# EAGLE library part MBUINO (library adafruit)
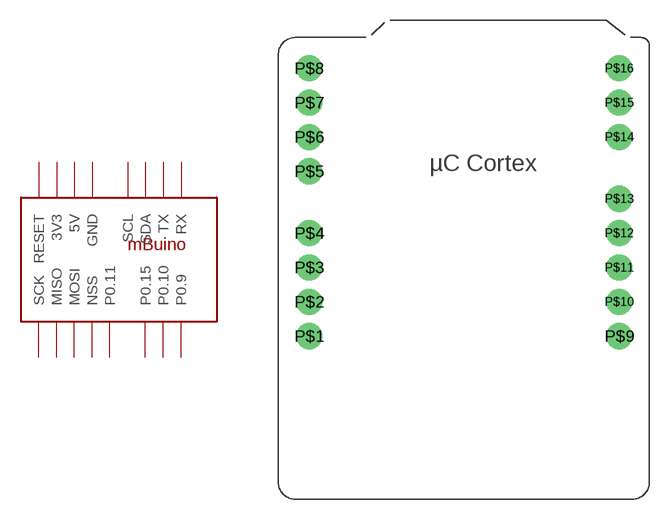
[diagram p105: symbol with the pads of MBUINO; footprint MBUINO]

Designator prefix -

## MBUINOMBUINO  [MBUINO]
P$1  RESET
P$2  3V3
P$3  5V
P$4  GND
P$5  SCL
P$6  SDA
P$7  TX
P$8  RX
P$9  SCK
P$10  MISO
P$11  MOSI
P$12  NSS
P$13  P0.11
P$14  P0.15
P$15  P0.10
P$16  P0.9

## Footprint MBUINO (pad centres in mm)
drill 1.1 pad 1.93: P$1 2.54,13.208; P$2 2.54,15.748; P$3 2.54,18.288; P$4 2.54,20.828; P$5 2.54,25.4; P$6 2.54,27.94; P$7 2.54,30.48; P$8 2.54,33.02; P$9 25.463,13.208; P$10 25.463,15.748; P$11 25.463,18.288; P$12 25.463,20.828; P$13 25.463,23.368; P$14 25.463,27.94; P$15 25.463,30.48; P$16 25.463,33.02